# Altium schematic symbol library 12-Fillters FB 滤波器+磁珠.SchLib: 36 symbols
Pins are listed as number, name and electrical type; pins without a type are passive.

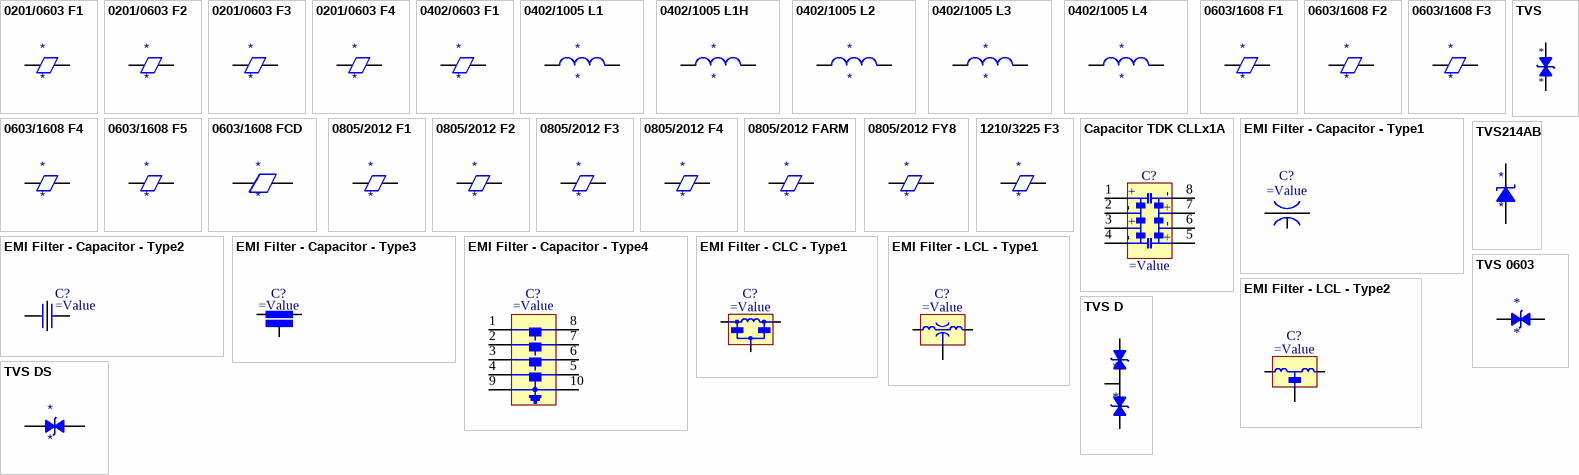
[diagram p0: symbols 0201/0603 F1 to TVS DS]

## 0201/0603 F1
designator *
footprint 0201/0603 F1
pins: 1, 2

## 0201/0603 F2
designator *
footprint 0201/0603 F2
pins: 1, 2

## 0201/0603 F3
designator *
footprint 0201/0603 F3
pins: 1, 2

## 0201/0603 F4
designator *
footprint 0201/0603 F4
pins: 1, 2

## 0402/0603 F1
designator *
pins: 1, 2

## 0402/1005 L1
designator *
footprint 0402/1005 L1
pins: 1, 2

## 0402/1005 L1H
designator *
footprint 0402/1005 L1h
pins: 1, 2

## 0402/1005 L2
designator *
footprint 0402/1005 L2
pins: 1, 2

## 0402/1005 L3
designator *
footprint 0402/1005 L3
pins: 1, 2

## 0402/1005 L4
designator *
footprint 0402/1005 L4
pins: 1, 2

## 0603/1608 F1
designator *
footprint 0603/1608 F1
pins: 1, 2

## 0603/1608 F2
designator *
footprint 0603/1608 F2
pins: 1, 2

## 0603/1608 F3
designator *
footprint 0603/1608 F3
pins: 1, 2

## 0603/1608 F4
designator *
footprint 0603/1608 F4
pins: 1, 2

## 0603/1608 F5
designator *
footprint 0603/1608 F5
pins: 1, 2

## 0603/1608 FCD
designator *
footprint 0603/1608 FCD
pins: 1, 2

## 0805/2012 F1
designator *
footprint 0805/2012 F1
pins: 1, 2

## 0805/2012 F2
designator *
footprint 0805/2012 F2
pins: 1, 2

## 0805/2012 F3
designator *
footprint 0805/2012 F3
pins: 1, 2

## 0805/2012 F4
designator *
footprint 0805/2012 F4
pins: 1, 2

## 0805/2012 FARM
designator *
footprint 0805/2012 FY8
pins: 1, 2

## 0805/2012 FY8
designator *
footprint 0805/2012 FY8
pins: 1, 2

## 1210/3225 F3
designator *
footprint 1210/3225 F3
pins: 1, 2

## Capacitor TDK CLLx1A
designator C?
Ultra Low Inductance Capacitor, TDK CLL Serie
pins: 1, 2, 3, 4, 5, 6, 7, 8
text: +; -

## EMI Filter - Capacitor - Type1
designator C?
EMI Filter - Capacitor Type 1
pins: 1, 2, 3

## EMI Filter - Capacitor - Type2
designator C?
EMI Filter - Capacitor Type 2
pins: 1, 2, G1, G2

## EMI Filter - Capacitor - Type3
designator C?
EMI Filter - Capacitor Type 3
pins: 1, 2, 3

## EMI Filter - Capacitor - Type4
designator C?
EMI Filter - Capacitor Type 4
pins: 1, 2, 3, 4, 5, 6, 7, 8, 9 GND (power), 10 GND (power)

## EMI Filter - CLC - Type1
designator C?
EMI PI Filter
pins: 1, 2, G

## EMI Filter - LCL - Type1
designator C?
EMI Filter (LC Combined)
pins: 1, 2, 3

## EMI Filter - LCL - Type2
designator C?
EMI Filter (LC Combined)
pins: 1, 2, 3

## TVS
designator *
0603
footprint RESC2012N (Chip Resistor, Body 2.0x1.2mm, IPC Medium Density)
pins: 1 A, 2 K

## TVS214AB
designator *
footprint DO-214AB
pins: 1 A, 2 K

## TVS 0603
designator *
footprint 0603 TVS
pins: 1 A, 2 K

## TVS D
designator *
pins: 1, 2, 3

## TVS DS
designator *
footprint DO-214AA
pins: 1 A, 2 K